# EAGLE library part AQ10A2-ZT4/32VDC (library PanasonicAQ1)
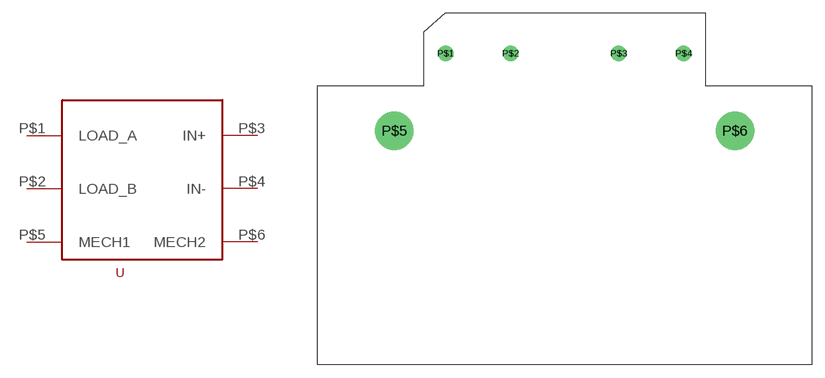
[diagram p0: symbol with the pads of AQ10A2-ZT4/32VDC; footprint AQ10A2-ZT4/32VDC]

Designator prefix -

## AQ10A2-ZT4/32VDC  [AQ10A2-ZT4/32VDC]
P$1  LOAD_A
P$2  LOAD_B
P$3  IN+
P$4  IN-
P$5  MECH1
P$6  MECH2

## Footprint AQ10A2-ZT4/32VDC (pad centres in mm)
drill 1.194: P$1 -13.97,0; P$2 -6.35,0; P$3 6.35,0; P$4 13.97,0
drill 3.505: P$5 -19.99,-9.093; P$6 19.99,-9.093